# Altium schematic symbol library DCJ235-05-A-K1-A.SchLib: 1 symbol
Pins are listed as number, name and electrical type; pins without a type are passive.

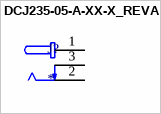
[diagram p0: symbol DCJ235-05-A-XX-X_REVA]

## DCJ235-05-A-XX-X_REVA
designator J?
DC Power Jack, Thru-Hole, Horizontal, with Locating Pegs, D2.35mm; MP: DCJ235-05-A-XX-X_REVA; MF: {'manufacturer': u'Global Connector Technology'}; Availability: Unavailable; Package: None; Price: None; Value: *
footprint GCT_DCJ235-05-A-XX-X_REVA
pins: 1, 2, 3